# Altium footprint library Common Devices.PcbLib: 39 footprints (part 3 of 3)
Each footprint in its own frame and in the unit in brackets; x right, y up, seen from the top. Pads: shape width x height; smd on the part's side, far side on the other; paste and mask are expansions set on the pad; w line width, h text height; cw(c..) or ccw(c..) is an arc to the next point about the centre after c.
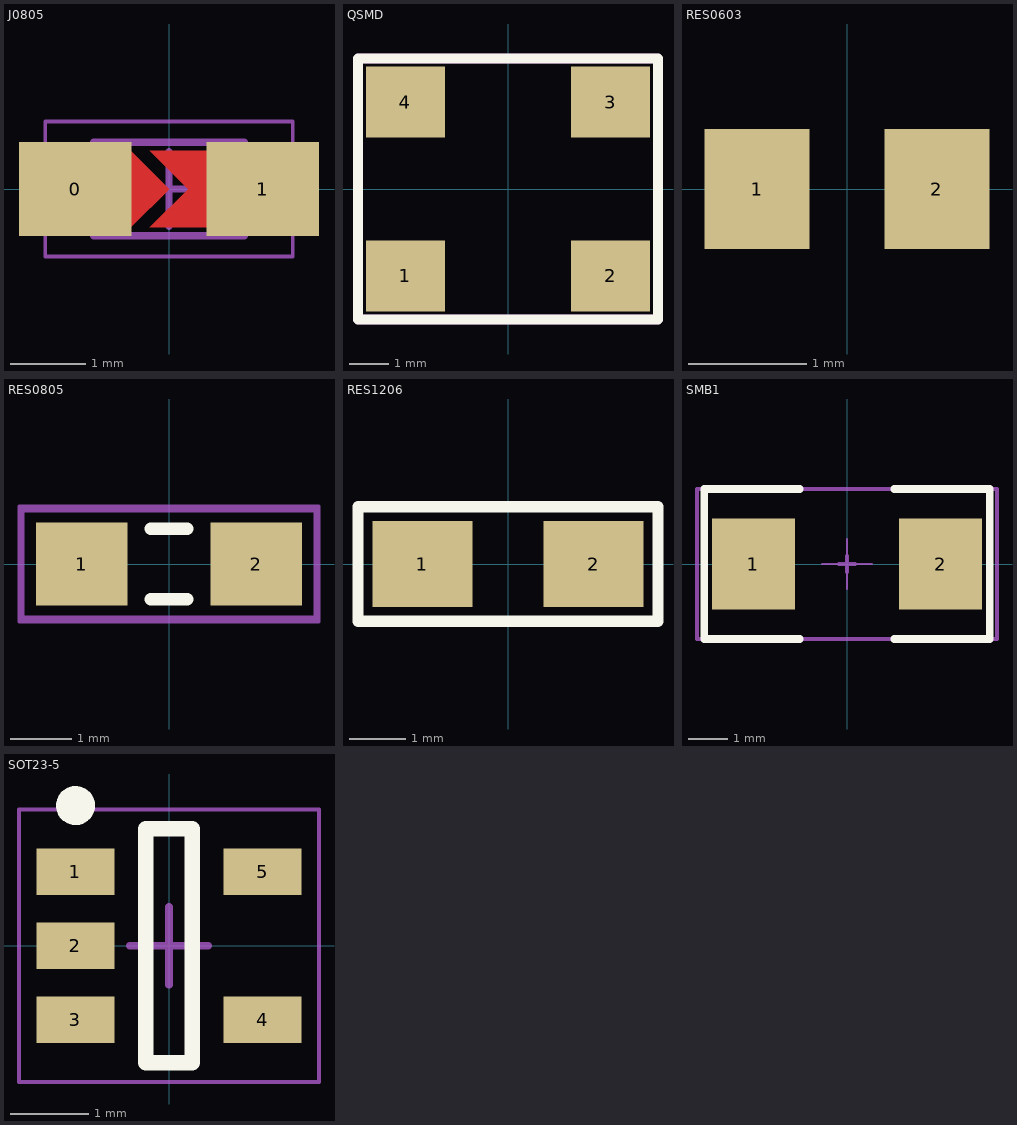
[diagram p2: the footprints below, top view; thin cyan lines are the x and y axes]

## J0805 [mm]
height 0.75
pads (2):
  rect 1.5x1.25 smd: 0(-1.25,0) 1(1.25,0)
Top Layer:
  region: -0.254,0.508 0.254,0 -0.254,-0.508 0.508,-0.508 0.508,0.508
  region: -0.508,-0.508 -0.508,0.508 0,0
Top Solder:
  region: -0.508,-0.635 0.508,-0.635 0.508,0.635 -0.508,0.635
  lines w0: -0.508,-0.635 -0.508,0.635 0.508,0.635 0.508,-0.635 -0.508,-0.635
Mechanical 13:
  lines w0.1: -1,-0.625 1,-0.625 1,0.625 -1,0.625 -1,-0.625
Mechanical 15:
  lines w0.05: -1.65,-0.9 1.65,-0.9 1.65,0.9 -1.65,0.9 -1.65,-0.9
  lines w0.1: -0.5,0 0.5,0 ; 0,-0.5 0,0.5
3D body: height 0.75, standoff 0, extent 0.85,-0.625 1,0.625
3D body: height 0.75, standoff 0, extent -1,-0.625 -0.85,0.625
3D body: height 0.75, standoff 0, extent -0.85,-0.625 0.85,0.625

## QSMD [mm] "Crystal oscillator SMD KXO-V97 4,2mm*5.28mm"
height 2
pads (4):
  rect 2x1.8 smd: 1(-2.6,-2.2) 2(2.6,-2.2) 3(2.6,2.2) 4(-2.6,2.2)
Top Overlay:
  lines w0.254: -3.8,-3.3 3.8,-3.3 3.8,3.3 -3.8,3.3 -3.8,-3.3
Mechanical 1:
  lines w0.254: -3.8,-3.3 3.8,-3.3 3.8,3.3 -3.8,3.3 -3.8,-3.3
3D body "User Library-KXO-97.STEP": height 1.8, standoff 0, extent -3.5,-2.475 3.5,2.605

## RES0603 [mil]
pads (2):
  rect 35x40 smd: 1(-30,0) 2(30,0)

## RES0805 [mm] "Chip Resistor, 2-Leads, Body 3.40x1.30mm, IPC Medium Density"
height 0.55
pads (2):
  rect 1.5x1.35 smd: 1(-1.425,0) 2(1.425,0)
Top Overlay:
  lines w0.2: -0.3,-0.575 0.3,-0.575 ; -0.3,0.575 0.3,0.575
Mechanical 13:
  lines w0.1: -2.413,-0.889 -2.413,0.889 2.413,0.889 2.413,-0.889 -2.413,-0.889
Mechanical 15:
  lines w0.05: -2.45,-0.95 -2.45,0.95 2.45,0.95 2.45,-0.95 -2.45,-0.95
3D body "RES-0805.STEP": height 0.76, standoff 0, extent -1.15,-0.675 1.15,0.675

## RES1206 [mil]
pads (2):
  rect 70x60 smd: 1(-60,0) 2(60,0)
Top Overlay:
  lines w7.87: -105,-40 105,-40 105,40 -105,40 -105,-40

## SMB1 [mm] "SMBJ"
height 2.44
pads (2):
  rect 2.1x2.3 smd: 1(-2.375,0) 2(2.375,0)
Top Overlay:
  lines w0.2: -1.2,-1.905 -3.625,-1.905 -3.625,1.905 -1.2,1.905 ; 1.2,-1.905 3.625,-1.905 3.625,1.905 1.2,1.905
Mechanical 1:
  lines w0.1: -0.2,0 0.2,0 ; 0,-0.2 0,0.2
Mechanical 13:
  lines w0.1: -3.175,0 -1.905,0 ; -2.54,-0.635 -2.54,0.635 ; -3.81,-1.905 3.81,-1.905 3.81,1.905 -3.81,1.905 -3.81,-1.905
Mechanical 15:
  lines w0.05: -0.635,0 0.635,0 ; 0,-0.635 0,0.635 ; -3.81,-1.905 -3.81,1.905 3.81,1.905 3.81,-1.905 -3.81,-1.905
  lines w0.1: -3.175,0 -1.905,0 ; -2.54,-0.635 -2.54,0.635
3D body "SW3dPS-DO-214AA SMB.STEP": height 2.3, standoff 0, extent -2.7,-1.8 2.7,1.8

## SOT23-5 [mm] "SOT23, 5-Leads, Body 2.90x2.45mm, Pitch 0.95mm, IPC Medium Density"
height 1.1
pads (5):
  rect 1x0.6 smd: 1(-1.2,0.95) 2(-1.2,0) 3(-1.2,-0.95) 4(1.2,-0.95) 5(1.2,0.95)
Top Overlay:
  circle w0.25: c-1.2,1.8 r0.125
  lines w0.2: -0.3,-1.5 -0.3,1.5 0.3,1.5 0.3,-1.5 -0.3,-1.5
Mechanical 15:
  lines w0.05: -1.925,-1.75 1.925,-1.75 1.925,1.75 -1.925,1.75 -1.925,-1.75
  lines w0.1: -0.5,0 0.5,0 ; 0,-0.5 0,0.5
3D body "SOT23-5.STEP": height 1.24, standoff 0.14, extent -1.397,-1.45 1.403,1.45